# EAGLE library part FDC6324 (library satellite)
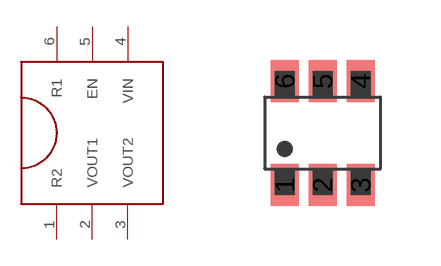
[diagram p21: symbol with the pads of SUPER-SOT-6; footprint SUPER-SOT-6]

Designator prefix -

## FDC6324  [SUPER-SOT-6]
1  R2
2  VOUT1  out
3  VOUT2  out
4  VIN  in
5  EN
6  R1

## Footprint SUPER-SOT-6 (pad centres in mm)
smd 0.7 x 1.06: 1 -0.95,-1.3; 2 0,-1.3; 3 0.95,-1.3; 4 0.95,1.3; 5 0,1.3; 6 -0.95,1.3